# Altium integrated library Resistors_CPF-0805.IntLib: 984 symbols (part 5 of 6)
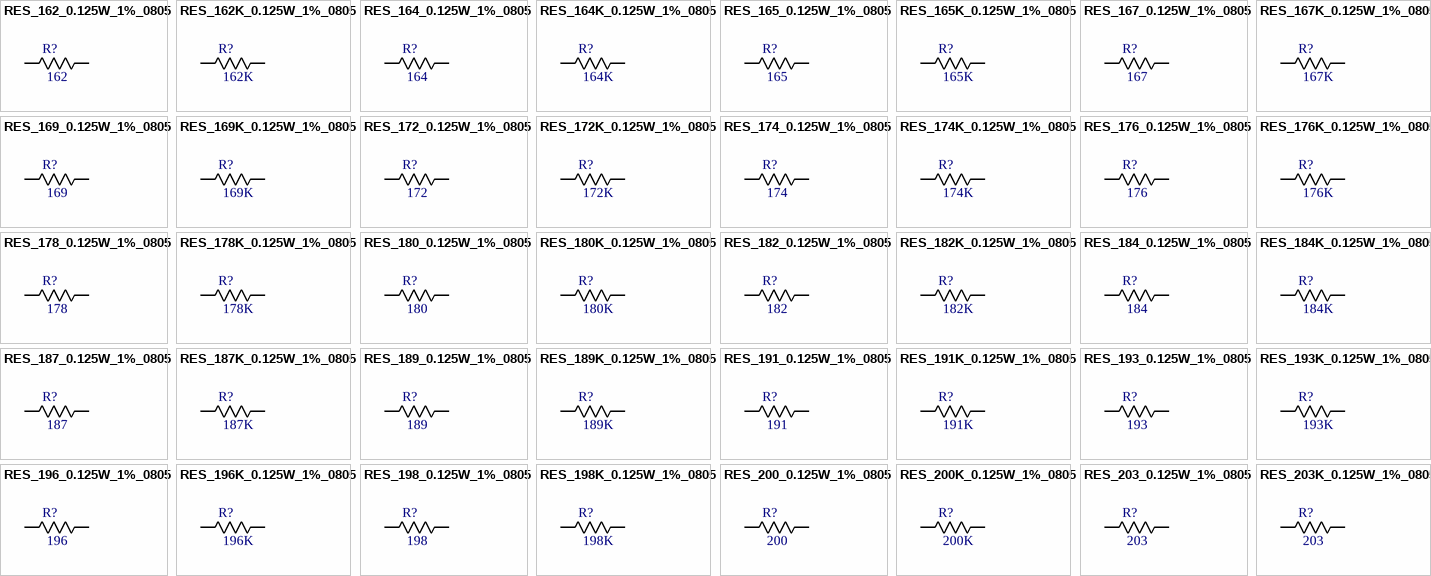
[diagram p28: symbols RES_162_0.125W_1%_0805 to RES_203K_0.125W_1%_0805]

## RES_174_0.125W_1%_0805
designator R?, comment 174
Resistenza SMD TE Connectivity Film sottile; Voltage[V]: 100; Tollerance[%]: 0.1; Serie: CPF; Vendor: TE Connectivity; Type: Resistors; Package: 0805; Power[W]: 0.1; Value[OHM ]: 174
footprint RES_0816_SUS(My_MAXI)
pins: 1, 2

## RES_174K_0.125W_1%_0805
designator R?, comment 174K
Resistenza SMD TE Connectivity Film sottile; Voltage[V]: 100; Tollerance[%]: 0.1; Serie: CPF; Vendor: TE Connectivity; Type: Resistors; Package: 0805; Power[W]: 0.1; Value[OHM ]: 174K
footprint RES_0816_SUS(My_MAXI)
pins: 1, 2

## RES_176_0.125W_1%_0805
designator R?, comment 176
Resistenza SMD TE Connectivity Film sottile; Voltage[V]: 100; Tollerance[%]: 0.1; Serie: CPF; Vendor: TE Connectivity; Type: Resistors; Package: 0805; Power[W]: 0.1; Value[OHM ]: 176
footprint RES_0816_SUS(My_MAXI)
pins: 1, 2

## RES_176K_0.125W_1%_0805
designator R?, comment 176K
Resistenza SMD TE Connectivity Film sottile; Voltage[V]: 100; Tollerance[%]: 0.1; Serie: CPF; Vendor: TE Connectivity; Type: Resistors; Package: 0805; Power[W]: 0.1; Value[OHM ]: 176K
footprint RES_0816_SUS(My_MAXI)
pins: 1, 2

## RES_178_0.125W_1%_0805
designator R?, comment 178
Resistenza SMD TE Connectivity Film sottile; Voltage[V]: 100; Tollerance[%]: 0.1; Serie: CPF; Vendor: TE Connectivity; Type: Resistors; Package: 0805; Power[W]: 0.1; Value[OHM ]: 178
footprint RES_0816_SUS(My_MAXI)
pins: 1, 2

## RES_178K_0.125W_1%_0805
designator R?, comment 178K
Resistenza SMD TE Connectivity Film sottile; Voltage[V]: 100; Tollerance[%]: 0.1; Serie: CPF; Vendor: TE Connectivity; Type: Resistors; Package: 0805; Power[W]: 0.1; Value[OHM ]: 178K
footprint RES_0816_SUS(My_MAXI)
pins: 1, 2

## RES_180_0.125W_1%_0805
designator R?, comment 180
Resistenza SMD TE Connectivity Film sottile; Voltage[V]: 100; Tollerance[%]: 0.1; Serie: CPF; Vendor: TE Connectivity; Type: Resistors; Package: 0805; Power[W]: 0.1; Value[OHM ]: 180
footprint RES_0816_SUS(My_MAXI)
pins: 1, 2

## RES_180K_0.125W_1%_0805
designator R?, comment 180K
Resistenza SMD TE Connectivity Film sottile; Voltage[V]: 100; Tollerance[%]: 0.1; Serie: CPF; Vendor: TE Connectivity; Type: Resistors; Package: 0805; Power[W]: 0.1; Value[OHM ]: 180K
footprint RES_0816_SUS(My_MAXI)
pins: 1, 2

## RES_182_0.125W_1%_0805
designator R?, comment 182
Resistenza SMD TE Connectivity Film sottile; Voltage[V]: 100; Tollerance[%]: 0.1; Serie: CPF; Vendor: TE Connectivity; Type: Resistors; Package: 0805; Power[W]: 0.1; Value[OHM ]: 182
footprint RES_0816_SUS(My_MAXI)
pins: 1, 2

## RES_182K_0.125W_1%_0805
designator R?, comment 182K
Resistenza SMD TE Connectivity Film sottile; Manufacturer_Part_Number: CPF0805B100RE; Voltage[V]: 100; Tollerance[%]: 0.1; Serie: CPF; Codice RS: 666-2516; Vendor: TE Connectivity; Type: Resistors; Package: 0805; Power[W]: 0.1; Value[OHM ]: 182K
footprint RES_0816_SUS(My_MAXI)
pins: 1, 2

## RES_184_0.125W_1%_0805
designator R?, comment 184
Resistenza SMD TE Connectivity Film sottile; Voltage[V]: 100; Tollerance[%]: 0.1; Serie: CPF; Vendor: TE Connectivity; Type: Resistors; Package: 0805; Power[W]: 0.1; Value[OHM ]: 184
footprint RES_0816_SUS(My_MAXI)
pins: 1, 2

## RES_184K_0.125W_1%_0805
designator R?, comment 184K
Resistenza SMD TE Connectivity Film sottile; Voltage[V]: 100; Tollerance[%]: 0.1; Serie: CPF; Vendor: TE Connectivity; Type: Resistors; Package: 0805; Power[W]: 0.1; Value[OHM ]: 184K
footprint RES_0816_SUS(My_MAXI)
pins: 1, 2

## RES_187_0.125W_1%_0805
designator R?, comment 187
Resistenza SMD TE Connectivity Film sottile; Voltage[V]: 100; Tollerance[%]: 0.1; Serie: CPF; Vendor: TE Connectivity; Type: Resistors; Package: 0805; Power[W]: 0.1; Value[OHM ]: 187
footprint RES_0816_SUS(My_MAXI)
pins: 1, 2

## RES_187K_0.125W_1%_0805
designator R?, comment 187K
Resistenza SMD TE Connectivity Film sottile; Voltage[V]: 100; Tollerance[%]: 0.1; Serie: CPF; Vendor: TE Connectivity; Type: Resistors; Package: 0805; Power[W]: 0.1; Value[OHM ]: 187K
footprint RES_0816_SUS(My_MAXI)
pins: 1, 2

## RES_189_0.125W_1%_0805
designator R?, comment 189
Resistenza SMD TE Connectivity Film sottile; Voltage[V]: 100; Tollerance[%]: 0.1; Serie: CPF; Vendor: TE Connectivity; Type: Resistors; Package: 0805; Power[W]: 0.1; Value[OHM ]: 189
footprint RES_0816_SUS(My_MAXI)
pins: 1, 2

## RES_189K_0.125W_1%_0805
designator R?, comment 189K
Resistenza SMD TE Connectivity Film sottile; Voltage[V]: 100; Tollerance[%]: 0.1; Serie: CPF; Vendor: TE Connectivity; Type: Resistors; Package: 0805; Power[W]: 0.1; Value[OHM ]: 189K
footprint RES_0816_SUS(My_MAXI)
pins: 1, 2

## RES_191_0.125W_1%_0805
designator R?, comment 191
Resistenza SMD TE Connectivity Film sottile; Voltage[V]: 100; Tollerance[%]: 0.1; Serie: CPF; Vendor: TE Connectivity; Type: Resistors; Package: 0805; Power[W]: 0.1; Value[OHM ]: 191
footprint RES_0816_SUS(My_MAXI)
pins: 1, 2

## RES_191K_0.125W_1%_0805
designator R?, comment 191K
Resistenza SMD TE Connectivity Film sottile; Voltage[V]: 100; Tollerance[%]: 0.1; Serie: CPF; Vendor: TE Connectivity; Type: Resistors; Package: 0805; Power[W]: 0.1; Value[OHM ]: 191K
footprint RES_0816_SUS(My_MAXI)
pins: 1, 2

## RES_193_0.125W_1%_0805
designator R?, comment 193
Resistenza SMD TE Connectivity Film sottile; Voltage[V]: 100; Tollerance[%]: 0.1; Serie: CPF; Vendor: TE Connectivity; Type: Resistors; Package: 0805; Power[W]: 0.1; Value[OHM ]: 193
footprint RES_0816_SUS(My_MAXI)
pins: 1, 2

## RES_193K_0.125W_1%_0805
designator R?, comment 193K
Resistenza SMD TE Connectivity Film sottile; Voltage[V]: 100; Tollerance[%]: 0.1; Serie: CPF; Vendor: TE Connectivity; Type: Resistors; Package: 0805; Power[W]: 0.1; Value[OHM ]: 193K
footprint RES_0816_SUS(My_MAXI)
pins: 1, 2

## RES_196_0.125W_1%_0805
designator R?, comment 196
Resistenza SMD TE Connectivity Film sottile; Voltage[V]: 100; Tollerance[%]: 0.1; Serie: CPF; Vendor: TE Connectivity; Type: Resistors; Package: 0805; Power[W]: 0.1; Value[OHM ]: 196
footprint RES_0816_SUS(My_MAXI)
pins: 1, 2

## RES_196K_0.125W_1%_0805
designator R?, comment 196K
Resistenza SMD TE Connectivity Film sottile; Voltage[V]: 100; Tollerance[%]: 0.1; Serie: CPF; Vendor: TE Connectivity; Type: Resistors; Package: 0805; Power[W]: 0.1; Value[OHM ]: 196K
footprint RES_0816_SUS(My_MAXI)
pins: 1, 2

## RES_198_0.125W_1%_0805
designator R?, comment 198
Resistenza SMD TE Connectivity Film sottile; Voltage[V]: 100; Tollerance[%]: 0.1; Serie: CPF; Vendor: TE Connectivity; Type: Resistors; Package: 0805; Power[W]: 0.1; Value[OHM ]: 198
footprint RES_0816_SUS(My_MAXI)
pins: 1, 2

## RES_198K_0.125W_1%_0805
designator R?, comment 198K
Resistenza SMD TE Connectivity Film sottile; Voltage[V]: 100; Tollerance[%]: 0.1; Serie: CPF; Vendor: TE Connectivity; Type: Resistors; Package: 0805; Power[W]: 0.1; Value[OHM ]: 198K
footprint RES_0816_SUS(My_MAXI)
pins: 1, 2

## RES_200_0.125W_1%_0805
designator R?, comment 200
Resistenza SMD TE Connectivity Film sottile; Voltage[V]: 100; Tollerance[%]: 0.1; Serie: CPF; Vendor: TE Connectivity; Type: Resistors; Package: 0805; Power[W]: 0.1; Value[OHM ]: 200
footprint RES_0816_SUS(My_MAXI)
pins: 1, 2

## RES_200K_0.125W_1%_0805
designator R?, comment 200K
Resistenza SMD TE Connectivity Film sottile; Voltage[V]: 100; Tollerance[%]: 0.1; Serie: CPF; Vendor: TE Connectivity; Type: Resistors; Package: 0805; Power[W]: 0.1; Value[OHM ]: 200K
footprint RES_0816_SUS(My_MAXI)
pins: 1, 2

## RES_203_0.125W_1%_0805
designator R?, comment 203
Resistenza SMD TE Connectivity Film sottile; Voltage[V]: 100; Tollerance[%]: 0.1; Serie: CPF; Vendor: TE Connectivity; Type: Resistors; Package: 0805; Power[W]: 0.1; Value[OHM ]: 203
footprint RES_0816_SUS(My_MAXI)
pins: 1, 2

## RES_203K_0.125W_1%_0805
designator R?, comment 203
Resistenza SMD TE Connectivity Film sottile; Voltage[V]: 100; Tollerance[%]: 0.1; Serie: CPF; Vendor: TE Connectivity; Type: Resistors; Package: 0805; Power[W]: 0.1; Value[OHM ]: 203
footprint RES_0816_SUS(My_MAXI)
pins: 1, 2

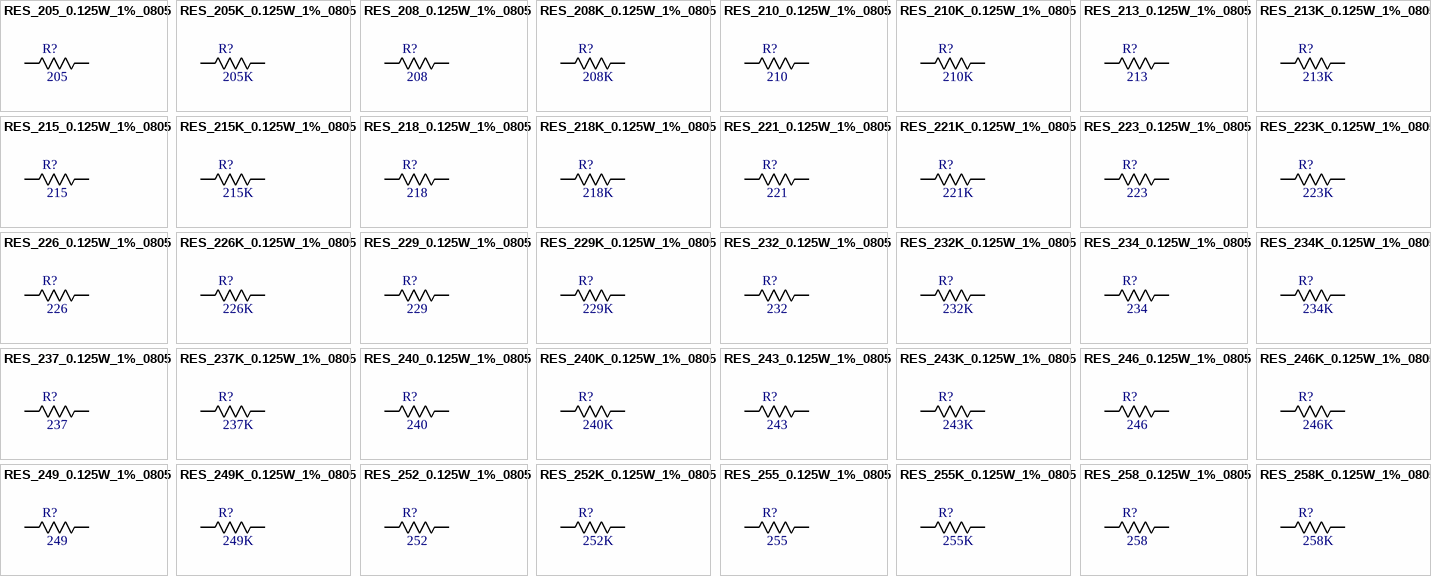
[diagram p18: symbols RES_205_0.125W_1%_0805 to RES_258K_0.125W_1%_0805]

## RES_205_0.125W_1%_0805
designator R?, comment 205
Resistenza SMD TE Connectivity Film sottile; Voltage[V]: 100; Tollerance[%]: 0.1; Serie: CPF; Vendor: TE Connectivity; Type: Resistors; Package: 0805; Power[W]: 0.1; Value[OHM ]: 205
footprint RES_0816_SUS(My_MAXI)
pins: 1, 2

## RES_205K_0.125W_1%_0805
designator R?, comment 205K
Resistenza SMD TE Connectivity Film sottile; Voltage[V]: 100; Tollerance[%]: 0.1; Serie: CPF; Vendor: TE Connectivity; Type: Resistors; Package: 0805; Power[W]: 0.1; Value[OHM ]: 205K
footprint RES_0816_SUS(My_MAXI)
pins: 1, 2

## RES_208_0.125W_1%_0805
designator R?, comment 208
Resistenza SMD TE Connectivity Film sottile; Voltage[V]: 100; Tollerance[%]: 0.1; Serie: CPF; Vendor: TE Connectivity; Type: Resistors; Package: 0805; Power[W]: 0.1; Value[OHM ]: 208
footprint RES_0816_SUS(My_MAXI)
pins: 1, 2

## RES_208K_0.125W_1%_0805
designator R?, comment 208K
Resistenza SMD TE Connectivity Film sottile; Voltage[V]: 100; Tollerance[%]: 0.1; Serie: CPF; Vendor: TE Connectivity; Type: Resistors; Package: 0805; Power[W]: 0.1; Value[OHM ]: 208K
footprint RES_0816_SUS(My_MAXI)
pins: 1, 2

## RES_210_0.125W_1%_0805
designator R?, comment 210
Resistenza SMD TE Connectivity Film sottile; Voltage[V]: 100; Tollerance[%]: 0.1; Serie: CPF; Vendor: TE Connectivity; Type: Resistors; Package: 0805; Power[W]: 0.1; Value[OHM ]: 210
footprint RES_0816_SUS(My_MAXI)
pins: 1, 2

## RES_210K_0.125W_1%_0805
designator R?, comment 210K
Resistenza SMD TE Connectivity Film sottile; Voltage[V]: 100; Tollerance[%]: 0.1; Serie: CPF; Vendor: TE Connectivity; Type: Resistors; Package: 0805; Power[W]: 0.1; Value[OHM ]: 210K
footprint RES_0816_SUS(My_MAXI)
pins: 1, 2

## RES_213_0.125W_1%_0805
designator R?, comment 213
Resistenza SMD TE Connectivity Film sottile; Voltage[V]: 100; Tollerance[%]: 0.1; Serie: CPF; Vendor: TE Connectivity; Type: Resistors; Package: 0805; Power[W]: 0.1; Value[OHM ]: 213
footprint RES_0816_SUS(My_MAXI)
pins: 1, 2

## RES_213K_0.125W_1%_0805
designator R?, comment 213K
Resistenza SMD TE Connectivity Film sottile; Voltage[V]: 100; Tollerance[%]: 0.1; Serie: CPF; Vendor: TE Connectivity; Type: Resistors; Package: 0805; Power[W]: 0.1; Value[OHM ]: 213K
footprint RES_0816_SUS(My_MAXI)
pins: 1, 2

## RES_215_0.125W_1%_0805
designator R?, comment 215
Resistenza SMD TE Connectivity Film sottile; Voltage[V]: 100; Tollerance[%]: 0.1; Serie: CPF; Vendor: TE Connectivity; Type: Resistors; Package: 0805; Power[W]: 0.1; Value[OHM ]: 215
footprint RES_0816_SUS(My_MAXI)
pins: 1, 2

## RES_215K_0.125W_1%_0805
designator R?, comment 215K
Resistenza SMD TE Connectivity Film sottile; Voltage[V]: 100; Tollerance[%]: 0.1; Serie: CPF; Vendor: TE Connectivity; Type: Resistors; Package: 0805; Power[W]: 0.1; Value[OHM ]: 215K
footprint RES_0816_SUS(My_MAXI)
pins: 1, 2

## RES_218_0.125W_1%_0805
designator R?, comment 218
Resistenza SMD TE Connectivity Film sottile; Voltage[V]: 100; Tollerance[%]: 0.1; Serie: CPF; Vendor: TE Connectivity; Type: Resistors; Package: 0805; Power[W]: 0.1; Value[OHM ]: 218
footprint RES_0816_SUS(My_MAXI)
pins: 1, 2

## RES_218K_0.125W_1%_0805
designator R?, comment 218K
Resistenza SMD TE Connectivity Film sottile; Voltage[V]: 100; Tollerance[%]: 0.1; Serie: CPF; Vendor: TE Connectivity; Type: Resistors; Package: 0805; Power[W]: 0.1; Value[OHM ]: 218K
footprint RES_0816_SUS(My_MAXI)
pins: 1, 2

## RES_221_0.125W_1%_0805
designator R?, comment 221
Resistenza SMD TE Connectivity Film sottile; Voltage[V]: 100; Tollerance[%]: 0.1; Serie: CPF; Vendor: TE Connectivity; Type: Resistors; Package: 0805; Power[W]: 0.1; Value[OHM ]: 221
footprint RES_0816_SUS(My_MAXI)
pins: 1, 2

## RES_221K_0.125W_1%_0805
designator R?, comment 221K
Resistenza SMD TE Connectivity Film sottile; Voltage[V]: 100; Tollerance[%]: 0.1; Serie: CPF; Vendor: TE Connectivity; Type: Resistors; Package: 0805; Power[W]: 0.1; Value[OHM ]: 221K
footprint RES_0816_SUS(My_MAXI)
pins: 1, 2

## RES_223_0.125W_1%_0805
designator R?, comment 223
Resistenza SMD TE Connectivity Film sottile; Voltage[V]: 100; Tollerance[%]: 0.1; Serie: CPF; Vendor: TE Connectivity; Type: Resistors; Package: 0805; Power[W]: 0.1; Value[OHM ]: 223
footprint RES_0816_SUS(My_MAXI)
pins: 1, 2

## RES_223K_0.125W_1%_0805
designator R?, comment 223K
Resistenza SMD TE Connectivity Film sottile; Voltage[V]: 100; Tollerance[%]: 0.1; Serie: CPF; Vendor: TE Connectivity; Type: Resistors; Package: 0805; Power[W]: 0.1; Value[OHM ]: 223K
footprint RES_0816_SUS(My_MAXI)
pins: 1, 2

## RES_226_0.125W_1%_0805
designator R?, comment 226
Resistenza SMD TE Connectivity Film sottile; Voltage[V]: 100; Tollerance[%]: 0.1; Serie: CPF; Vendor: TE Connectivity; Type: Resistors; Package: 0805; Power[W]: 0.1; Value[OHM ]: 226
footprint RES_0816_SUS(My_MAXI)
pins: 1, 2

## RES_226K_0.125W_1%_0805
designator R?, comment 226K
Resistenza SMD TE Connectivity Film sottile; Voltage[V]: 100; Tollerance[%]: 0.1; Serie: CPF; Vendor: TE Connectivity; Type: Resistors; Package: 0805; Power[W]: 0.1; Value[OHM ]: 226K
footprint RES_0816_SUS(My_MAXI)
pins: 1, 2

## RES_229_0.125W_1%_0805
designator R?, comment 229
Resistenza SMD TE Connectivity Film sottile; Voltage[V]: 100; Tollerance[%]: 0.1; Serie: CPF; Vendor: TE Connectivity; Type: Resistors; Package: 0805; Power[W]: 0.1; Value[OHM ]: 229
footprint RES_0816_SUS(My_MAXI)
pins: 1, 2

## RES_229K_0.125W_1%_0805
designator R?, comment 229K
Resistenza SMD TE Connectivity Film sottile; Voltage[V]: 100; Tollerance[%]: 0.1; Serie: CPF; Vendor: TE Connectivity; Type: Resistors; Package: 0805; Power[W]: 0.1; Value[OHM ]: 229K
footprint RES_0816_SUS(My_MAXI)
pins: 1, 2

## RES_232_0.125W_1%_0805
designator R?, comment 232
Resistenza SMD TE Connectivity Film sottile; Voltage[V]: 100; Tollerance[%]: 0.1; Serie: CPF; Vendor: TE Connectivity; Type: Resistors; Package: 0805; Power[W]: 0.1; Value[OHM ]: 232
footprint RES_0816_SUS(My_MAXI)
pins: 1, 2

## RES_232K_0.125W_1%_0805
designator R?, comment 232K
Resistenza SMD TE Connectivity Film sottile; Voltage[V]: 100; Tollerance[%]: 0.1; Serie: CPF; Vendor: TE Connectivity; Type: Resistors; Package: 0805; Power[W]: 0.1; Value[OHM ]: 232K
footprint RES_0816_SUS(My_MAXI)
pins: 1, 2

## RES_234_0.125W_1%_0805
designator R?, comment 234
Resistenza SMD TE Connectivity Film sottile; Voltage[V]: 100; Tollerance[%]: 0.1; Serie: CPF; Vendor: TE Connectivity; Type: Resistors; Package: 0805; Power[W]: 0.1; Value[OHM ]: 234
footprint RES_0816_SUS(My_MAXI)
pins: 1, 2

## RES_234K_0.125W_1%_0805
designator R?, comment 234K
Resistenza SMD TE Connectivity Film sottile; Voltage[V]: 100; Tollerance[%]: 0.1; Serie: CPF; Vendor: TE Connectivity; Type: Resistors; Package: 0805; Power[W]: 0.1; Value[OHM ]: 234K
footprint RES_0816_SUS(My_MAXI)
pins: 1, 2

## RES_237_0.125W_1%_0805
designator R?, comment 237
Resistenza SMD TE Connectivity Film sottile; Voltage[V]: 100; Tollerance[%]: 0.1; Serie: CPF; Vendor: TE Connectivity; Type: Resistors; Package: 0805; Power[W]: 0.1; Value[OHM ]: 237
footprint RES_0816_SUS(My_MAXI)
pins: 1, 2

## RES_237K_0.125W_1%_0805
designator R?, comment 237K
Resistenza SMD TE Connectivity Film sottile; Voltage[V]: 100; Tollerance[%]: 0.1; Serie: CPF; Vendor: TE Connectivity; Type: Resistors; Package: 0805; Power[W]: 0.1; Value[OHM ]: 237K
footprint RES_0816_SUS(My_MAXI)
pins: 1, 2

## RES_240_0.125W_1%_0805
designator R?, comment 240
Resistenza SMD TE Connectivity Film sottile; Voltage[V]: 100; Tollerance[%]: 0.1; Serie: CPF; Vendor: TE Connectivity; Type: Resistors; Package: 0805; Power[W]: 0.1; Value[OHM ]: 240
footprint RES_0816_SUS(My_MAXI)
pins: 1, 2

## RES_240K_0.125W_1%_0805
designator R?, comment 240K
Resistenza SMD TE Connectivity Film sottile; Voltage[V]: 100; Tollerance[%]: 0.1; Serie: CPF; Vendor: TE Connectivity; Type: Resistors; Package: 0805; Power[W]: 0.1; Value[OHM ]: 240K
footprint RES_0816_SUS(My_MAXI)
pins: 1, 2

## RES_243_0.125W_1%_0805
designator R?, comment 243
Resistenza SMD TE Connectivity Film sottile; Voltage[V]: 100; Tollerance[%]: 0.1; Serie: CPF; Vendor: TE Connectivity; Type: Resistors; Package: 0805; Power[W]: 0.1; Value[OHM ]: 243
footprint RES_0816_SUS(My_MAXI)
pins: 1, 2

## RES_243K_0.125W_1%_0805
designator R?, comment 243K
Resistenza SMD TE Connectivity Film sottile; Voltage[V]: 100; Tollerance[%]: 0.1; Serie: CPF; Vendor: TE Connectivity; Type: Resistors; Package: 0805; Power[W]: 0.1; Value[OHM ]: 243K
footprint RES_0816_SUS(My_MAXI)
pins: 1, 2

## RES_246_0.125W_1%_0805
designator R?, comment 246
Resistenza SMD TE Connectivity Film sottile; Voltage[V]: 100; Tollerance[%]: 0.1; Serie: CPF; Vendor: TE Connectivity; Type: Resistors; Package: 0805; Power[W]: 0.1; Value[OHM ]: 246
footprint RES_0816_SUS(My_MAXI)
pins: 1, 2

## RES_246K_0.125W_1%_0805
designator R?, comment 246K
Resistenza SMD TE Connectivity Film sottile; Voltage[V]: 100; Tollerance[%]: 0.1; Serie: CPF; Vendor: TE Connectivity; Type: Resistors; Package: 0805; Power[W]: 0.1; Value[OHM ]: 246K
footprint RES_0816_SUS(My_MAXI)
pins: 1, 2

## RES_249_0.125W_1%_0805
designator R?, comment 249
Resistenza SMD TE Connectivity Film sottile; Voltage[V]: 100; Tollerance[%]: 0.1; Serie: CPF; Vendor: TE Connectivity; Type: Resistors; Package: 0805; Power[W]: 0.1; Value[OHM ]: 249
footprint RES_0816_SUS(My_MAXI)
pins: 1, 2

## RES_249K_0.125W_1%_0805
designator R?, comment 249K
Resistenza SMD TE Connectivity Film sottile; Voltage[V]: 100; Tollerance[%]: 0.1; Serie: CPF; Vendor: TE Connectivity; Type: Resistors; Package: 0805; Power[W]: 0.1; Value[OHM ]: 249K
footprint RES_0816_SUS(My_MAXI)
pins: 1, 2

## RES_252_0.125W_1%_0805
designator R?, comment 252
Resistenza SMD TE Connectivity Film sottile; Voltage[V]: 100; Tollerance[%]: 0.1; Serie: CPF; Vendor: TE Connectivity; Type: Resistors; Package: 0805; Power[W]: 0.1; Value[OHM ]: 252
footprint RES_0816_SUS(My_MAXI)
pins: 1, 2

## RES_252K_0.125W_1%_0805
designator R?, comment 252K
Resistenza SMD TE Connectivity Film sottile; Voltage[V]: 100; Tollerance[%]: 0.1; Serie: CPF; Vendor: TE Connectivity; Type: Resistors; Package: 0805; Power[W]: 0.1; Value[OHM ]: 252K
footprint RES_0816_SUS(My_MAXI)
pins: 1, 2

## RES_255_0.125W_1%_0805
designator R?, comment 255
Resistenza SMD TE Connectivity Film sottile; Voltage[V]: 100; Tollerance[%]: 0.1; Serie: CPF; Vendor: TE Connectivity; Type: Resistors; Package: 0805; Power[W]: 0.1; Value[OHM ]: 255
footprint RES_0816_SUS(My_MAXI)
pins: 1, 2

## RES_255K_0.125W_1%_0805
designator R?, comment 255K
Resistenza SMD TE Connectivity Film sottile; Voltage[V]: 100; Tollerance[%]: 0.1; Serie: CPF; Vendor: TE Connectivity; Type: Resistors; Package: 0805; Power[W]: 0.1; Value[OHM ]: 255K
footprint RES_0816_SUS(My_MAXI)
pins: 1, 2

## RES_258_0.125W_1%_0805
designator R?, comment 258
Resistenza SMD TE Connectivity Film sottile; Voltage[V]: 100; Tollerance[%]: 0.1; Serie: CPF; Vendor: TE Connectivity; Type: Resistors; Package: 0805; Power[W]: 0.1; Value[OHM ]: 258
footprint RES_0816_SUS(My_MAXI)
pins: 1, 2

## RES_258K_0.125W_1%_0805
designator R?, comment 258K
Resistenza SMD TE Connectivity Film sottile; Voltage[V]: 100; Tollerance[%]: 0.1; Serie: CPF; Vendor: TE Connectivity; Type: Resistors; Package: 0805; Power[W]: 0.1; Value[OHM ]: 258K
footprint RES_0816_SUS(My_MAXI)
pins: 1, 2

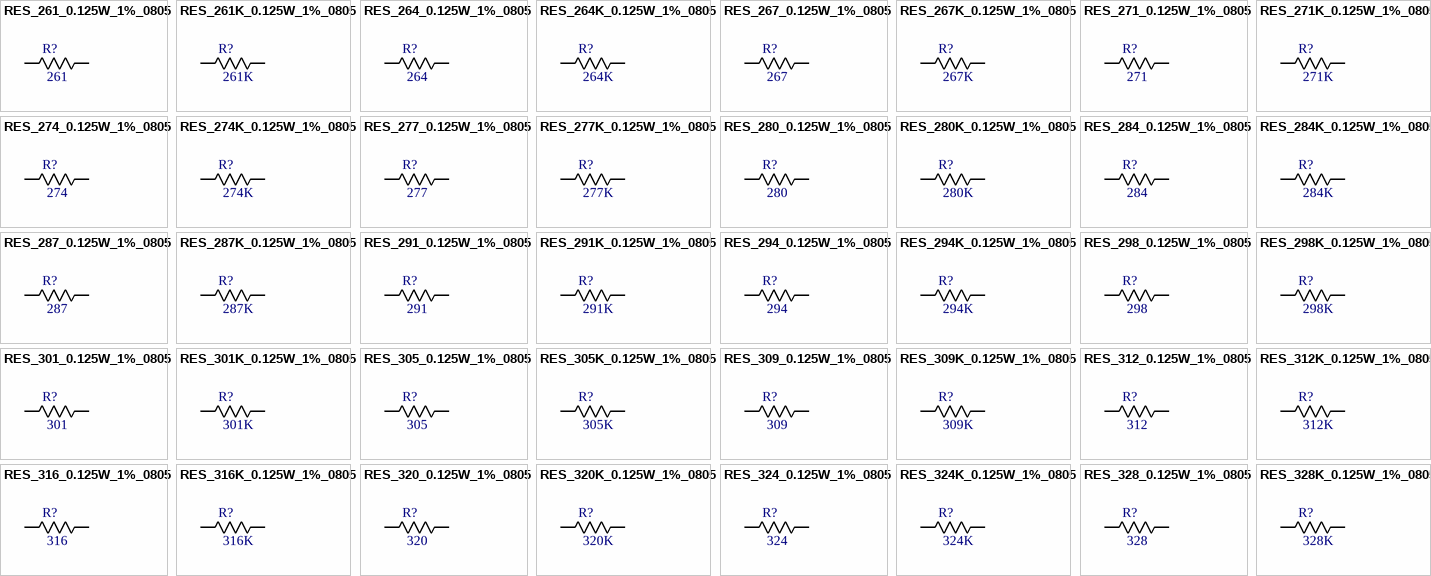
[diagram p19: symbols RES_261_0.125W_1%_0805 to RES_328K_0.125W_1%_0805]

## RES_261_0.125W_1%_0805
designator R?, comment 261
Resistenza SMD TE Connectivity Film sottile; Voltage[V]: 100; Tollerance[%]: 0.1; Serie: CPF; Vendor: TE Connectivity; Type: Resistors; Package: 0805; Power[W]: 0.1; Value[OHM ]: 261
footprint RES_0816_SUS(My_MAXI)
pins: 1, 2

## RES_261K_0.125W_1%_0805
designator R?, comment 261K
Resistenza SMD TE Connectivity Film sottile; Voltage[V]: 100; Tollerance[%]: 0.1; Serie: CPF; Vendor: TE Connectivity; Type: Resistors; Package: 0805; Power[W]: 0.1; Value[OHM ]: 261K
footprint RES_0816_SUS(My_MAXI)
pins: 1, 2

## RES_264_0.125W_1%_0805
designator R?, comment 264
Resistenza SMD TE Connectivity Film sottile; Voltage[V]: 100; Tollerance[%]: 0.1; Serie: CPF; Vendor: TE Connectivity; Type: Resistors; Package: 0805; Power[W]: 0.1; Value[OHM ]: 264
footprint RES_0816_SUS(My_MAXI)
pins: 1, 2

## RES_264K_0.125W_1%_0805
designator R?, comment 264K
Resistenza SMD TE Connectivity Film sottile; Voltage[V]: 100; Tollerance[%]: 0.1; Serie: CPF; Vendor: TE Connectivity; Type: Resistors; Package: 0805; Power[W]: 0.1; Value[OHM ]: 264K
footprint RES_0816_SUS(My_MAXI)
pins: 1, 2

## RES_267_0.125W_1%_0805
designator R?, comment 267
Resistenza SMD TE Connectivity Film sottile; Voltage[V]: 100; Tollerance[%]: 0.1; Serie: CPF; Vendor: TE Connectivity; Type: Resistors; Package: 0805; Power[W]: 0.1; Value[OHM ]: 267
footprint RES_0816_SUS(My_MAXI)
pins: 1, 2

## RES_267K_0.125W_1%_0805
designator R?, comment 267K
Resistenza SMD TE Connectivity Film sottile; Voltage[V]: 100; Tollerance[%]: 0.1; Serie: CPF; Vendor: TE Connectivity; Type: Resistors; Package: 0805; Power[W]: 0.1; Value[OHM ]: 267K
footprint RES_0816_SUS(My_MAXI)
pins: 1, 2

## RES_271_0.125W_1%_0805
designator R?, comment 271
Resistenza SMD TE Connectivity Film sottile; Voltage[V]: 100; Tollerance[%]: 0.1; Serie: CPF; Vendor: TE Connectivity; Type: Resistors; Package: 0805; Power[W]: 0.1; Value[OHM ]: 271
footprint RES_0816_SUS(My_MAXI)
pins: 1, 2

## RES_271K_0.125W_1%_0805
designator R?, comment 271K
Resistenza SMD TE Connectivity Film sottile; Voltage[V]: 100; Tollerance[%]: 0.1; Serie: CPF; Vendor: TE Connectivity; Type: Resistors; Package: 0805; Power[W]: 0.1; Value[OHM ]: 271K
footprint RES_0816_SUS(My_MAXI)
pins: 1, 2

## RES_274_0.125W_1%_0805
designator R?, comment 274
Resistenza SMD TE Connectivity Film sottile; Voltage[V]: 100; Tollerance[%]: 0.1; Serie: CPF; Vendor: TE Connectivity; Type: Resistors; Package: 0805; Power[W]: 0.1; Value[OHM ]: 274
footprint RES_0816_SUS(My_MAXI)
pins: 1, 2

## RES_274K_0.125W_1%_0805
designator R?, comment 274K
Resistenza SMD TE Connectivity Film sottile; Voltage[V]: 100; Tollerance[%]: 0.1; Serie: CPF; Vendor: TE Connectivity; Type: Resistors; Package: 0805; Power[W]: 0.1; Value[OHM ]: 274K
footprint RES_0816_SUS(My_MAXI)
pins: 1, 2

## RES_277_0.125W_1%_0805
designator R?, comment 277
Resistenza SMD TE Connectivity Film sottile; Voltage[V]: 100; Tollerance[%]: 0.1; Serie: CPF; Vendor: TE Connectivity; Type: Resistors; Package: 0805; Power[W]: 0.1; Value[OHM ]: 277
footprint RES_0816_SUS(My_MAXI)
pins: 1, 2

## RES_277K_0.125W_1%_0805
designator R?, comment 277K
Resistenza SMD TE Connectivity Film sottile; Voltage[V]: 100; Tollerance[%]: 0.1; Serie: CPF; Vendor: TE Connectivity; Type: Resistors; Package: 0805; Power[W]: 0.1; Value[OHM ]: 277K
footprint RES_0816_SUS(My_MAXI)
pins: 1, 2

## RES_280_0.125W_1%_0805
designator R?, comment 280
Resistenza SMD TE Connectivity Film sottile; Voltage[V]: 100; Tollerance[%]: 0.1; Serie: CPF; Vendor: TE Connectivity; Type: Resistors; Package: 0805; Power[W]: 0.1; Value[OHM ]: 280
footprint RES_0816_SUS(My_MAXI)
pins: 1, 2

## RES_280K_0.125W_1%_0805
designator R?, comment 280K
Resistenza SMD TE Connectivity Film sottile; Voltage[V]: 100; Tollerance[%]: 0.1; Serie: CPF; Vendor: TE Connectivity; Type: Resistors; Package: 0805; Power[W]: 0.1; Value[OHM ]: 280K
footprint RES_0816_SUS(My_MAXI)
pins: 1, 2

## RES_284_0.125W_1%_0805
designator R?, comment 284
Resistenza SMD TE Connectivity Film sottile; Voltage[V]: 100; Tollerance[%]: 0.1; Serie: CPF; Vendor: TE Connectivity; Type: Resistors; Package: 0805; Power[W]: 0.1; Value[OHM ]: 284
footprint RES_0816_SUS(My_MAXI)
pins: 1, 2

## RES_284K_0.125W_1%_0805
designator R?, comment 284K
Resistenza SMD TE Connectivity Film sottile; Voltage[V]: 100; Tollerance[%]: 0.1; Serie: CPF; Vendor: TE Connectivity; Type: Resistors; Package: 0805; Power[W]: 0.1; Value[OHM ]: 284K
footprint RES_0816_SUS(My_MAXI)
pins: 1, 2

## RES_287_0.125W_1%_0805
designator R?, comment 287
Resistenza SMD TE Connectivity Film sottile; Voltage[V]: 100; Tollerance[%]: 0.1; Serie: CPF; Vendor: TE Connectivity; Type: Resistors; Package: 0805; Power[W]: 0.1; Value[OHM ]: 287
footprint RES_0816_SUS(My_MAXI)
pins: 1, 2

## RES_287K_0.125W_1%_0805
designator R?, comment 287K
Resistenza SMD TE Connectivity Film sottile; Voltage[V]: 100; Tollerance[%]: 0.1; Serie: CPF; Vendor: TE Connectivity; Type: Resistors; Package: 0805; Power[W]: 0.1; Value[OHM ]: 287K
footprint RES_0816_SUS(My_MAXI)
pins: 1, 2

## RES_291_0.125W_1%_0805
designator R?, comment 291
Resistenza SMD TE Connectivity Film sottile; Voltage[V]: 100; Tollerance[%]: 0.1; Serie: CPF; Vendor: TE Connectivity; Type: Resistors; Package: 0805; Power[W]: 0.1; Value[OHM ]: 291
footprint RES_0816_SUS(My_MAXI)
pins: 1, 2

## RES_291K_0.125W_1%_0805
designator R?, comment 291K
Resistenza SMD TE Connectivity Film sottile; Voltage[V]: 100; Tollerance[%]: 0.1; Serie: CPF; Vendor: TE Connectivity; Type: Resistors; Package: 0805; Power[W]: 0.1; Value[OHM ]: 291K
footprint RES_0816_SUS(My_MAXI)
pins: 1, 2

## RES_294_0.125W_1%_0805
designator R?, comment 294
Resistenza SMD TE Connectivity Film sottile; Voltage[V]: 100; Tollerance[%]: 0.1; Serie: CPF; Vendor: TE Connectivity; Type: Resistors; Package: 0805; Power[W]: 0.1; Value[OHM ]: 294
footprint RES_0816_SUS(My_MAXI)
pins: 1, 2

## RES_294K_0.125W_1%_0805
designator R?, comment 294K
Resistenza SMD TE Connectivity Film sottile; Voltage[V]: 100; Tollerance[%]: 0.1; Serie: CPF; Vendor: TE Connectivity; Type: Resistors; Package: 0805; Power[W]: 0.1; Value[OHM ]: 294K
footprint RES_0816_SUS(My_MAXI)
pins: 1, 2

## RES_298_0.125W_1%_0805
designator R?, comment 298
Resistenza SMD TE Connectivity Film sottile; Voltage[V]: 100; Tollerance[%]: 0.1; Serie: CPF; Vendor: TE Connectivity; Type: Resistors; Package: 0805; Power[W]: 0.1; Value[OHM ]: 298
footprint RES_0816_SUS(My_MAXI)
pins: 1, 2

## RES_298K_0.125W_1%_0805
designator R?, comment 298K
Resistenza SMD TE Connectivity Film sottile; Voltage[V]: 100; Tollerance[%]: 0.1; Serie: CPF; Vendor: TE Connectivity; Type: Resistors; Package: 0805; Power[W]: 0.1; Value[OHM ]: 298K
footprint RES_0816_SUS(My_MAXI)
pins: 1, 2

## RES_301_0.125W_1%_0805
designator R?, comment 301
Resistenza SMD TE Connectivity Film sottile; Voltage[V]: 100; Tollerance[%]: 0.1; Serie: CPF; Vendor: TE Connectivity; Type: Resistors; Package: 0805; Power[W]: 0.1; Value[OHM ]: 301
footprint RES_0816_SUS(My_MAXI)
pins: 1, 2

## RES_301K_0.125W_1%_0805
designator R?, comment 301K
Resistenza SMD TE Connectivity Film sottile; Voltage[V]: 100; Tollerance[%]: 0.1; Serie: CPF; Vendor: TE Connectivity; Type: Resistors; Package: 0805; Power[W]: 0.1; Value[OHM ]: 301K
footprint RES_0816_SUS(My_MAXI)
pins: 1, 2

## RES_305_0.125W_1%_0805
designator R?, comment 305
Resistenza SMD TE Connectivity Film sottile; Voltage[V]: 100; Tollerance[%]: 0.1; Serie: CPF; Vendor: TE Connectivity; Type: Resistors; Package: 0805; Power[W]: 0.1; Value[OHM ]: 305
footprint RES_0816_SUS(My_MAXI)
pins: 1, 2

## RES_305K_0.125W_1%_0805
designator R?, comment 305K
Resistenza SMD TE Connectivity Film sottile; Voltage[V]: 100; Tollerance[%]: 0.1; Serie: CPF; Vendor: TE Connectivity; Type: Resistors; Package: 0805; Power[W]: 0.1; Value[OHM ]: 305K
footprint RES_0816_SUS(My_MAXI)
pins: 1, 2

## RES_309_0.125W_1%_0805
designator R?, comment 309
Resistenza SMD TE Connectivity Film sottile; Voltage[V]: 100; Tollerance[%]: 0.1; Serie: CPF; Vendor: TE Connectivity; Type: Resistors; Package: 0805; Power[W]: 0.1; Value[OHM ]: 309
footprint RES_0816_SUS(My_MAXI)
pins: 1, 2

## RES_309K_0.125W_1%_0805
designator R?, comment 309K
Resistenza SMD TE Connectivity Film sottile; Voltage[V]: 100; Tollerance[%]: 0.1; Serie: CPF; Vendor: TE Connectivity; Type: Resistors; Package: 0805; Power[W]: 0.1; Value[OHM ]: 309K
footprint RES_0816_SUS(My_MAXI)
pins: 1, 2

## RES_312_0.125W_1%_0805
designator R?, comment 312
Resistenza SMD TE Connectivity Film sottile; Voltage[V]: 100; Tollerance[%]: 0.1; Serie: CPF; Vendor: TE Connectivity; Type: Resistors; Package: 0805; Power[W]: 0.1; Value[OHM ]: 312
footprint RES_0816_SUS(My_MAXI)
pins: 1, 2

## RES_312K_0.125W_1%_0805
designator R?, comment 312K
Resistenza SMD TE Connectivity Film sottile; Voltage[V]: 100; Tollerance[%]: 0.1; Serie: CPF; Vendor: TE Connectivity; Type: Resistors; Package: 0805; Power[W]: 0.1; Value[OHM ]: 312K
footprint RES_0816_SUS(My_MAXI)
pins: 1, 2

## RES_316_0.125W_1%_0805
designator R?, comment 316
Resistenza SMD TE Connectivity Film sottile; Voltage[V]: 100; Tollerance[%]: 0.1; Serie: CPF; Vendor: TE Connectivity; Type: Resistors; Package: 0805; Power[W]: 0.1; Value[OHM ]: 316
footprint RES_0816_SUS(My_MAXI)
pins: 1, 2

## RES_316K_0.125W_1%_0805
designator R?, comment 316K
Resistenza SMD TE Connectivity Film sottile; Voltage[V]: 100; Tollerance[%]: 0.1; Serie: CPF; Vendor: TE Connectivity; Type: Resistors; Package: 0805; Power[W]: 0.1; Value[OHM ]: 316K
footprint RES_0816_SUS(My_MAXI)
pins: 1, 2

## RES_320_0.125W_1%_0805
designator R?, comment 320
Resistenza SMD TE Connectivity Film sottile; Voltage[V]: 100; Tollerance[%]: 0.1; Serie: CPF; Vendor: TE Connectivity; Type: Resistors; Package: 0805; Power[W]: 0.1; Value[OHM ]: 320
footprint RES_0816_SUS(My_MAXI)
pins: 1, 2

## RES_320K_0.125W_1%_0805
designator R?, comment 320K
Resistenza SMD TE Connectivity Film sottile; Voltage[V]: 100; Tollerance[%]: 0.1; Serie: CPF; Vendor: TE Connectivity; Type: Resistors; Package: 0805; Power[W]: 0.1; Value[OHM ]: 320K
footprint RES_0816_SUS(My_MAXI)
pins: 1, 2

## RES_324_0.125W_1%_0805
designator R?, comment 324
Resistenza SMD TE Connectivity Film sottile; Voltage[V]: 100; Tollerance[%]: 0.1; Serie: CPF; Vendor: TE Connectivity; Type: Resistors; Package: 0805; Power[W]: 0.1; Value[OHM ]: 324
footprint RES_0816_SUS(My_MAXI)
pins: 1, 2

## RES_324K_0.125W_1%_0805
designator R?, comment 324K
Resistenza SMD TE Connectivity Film sottile; Voltage[V]: 100; Tollerance[%]: 0.1; Serie: CPF; Vendor: TE Connectivity; Type: Resistors; Package: 0805; Power[W]: 0.1; Value[OHM ]: 324K
footprint RES_0816_SUS(My_MAXI)
pins: 1, 2

## RES_328_0.125W_1%_0805
designator R?, comment 328
Resistenza SMD TE Connectivity Film sottile; Voltage[V]: 100; Tollerance[%]: 0.1; Serie: CPF; Vendor: TE Connectivity; Type: Resistors; Package: 0805; Power[W]: 0.1; Value[OHM ]: 328
footprint RES_0816_SUS(My_MAXI)
pins: 1, 2

## RES_328K_0.125W_1%_0805
designator R?, comment 328K
Resistenza SMD TE Connectivity Film sottile; Voltage[V]: 100; Tollerance[%]: 0.1; Serie: CPF; Vendor: TE Connectivity; Type: Resistors; Package: 0805; Power[W]: 0.1; Value[OHM ]: 328K
footprint RES_0816_SUS(My_MAXI)
pins: 1, 2

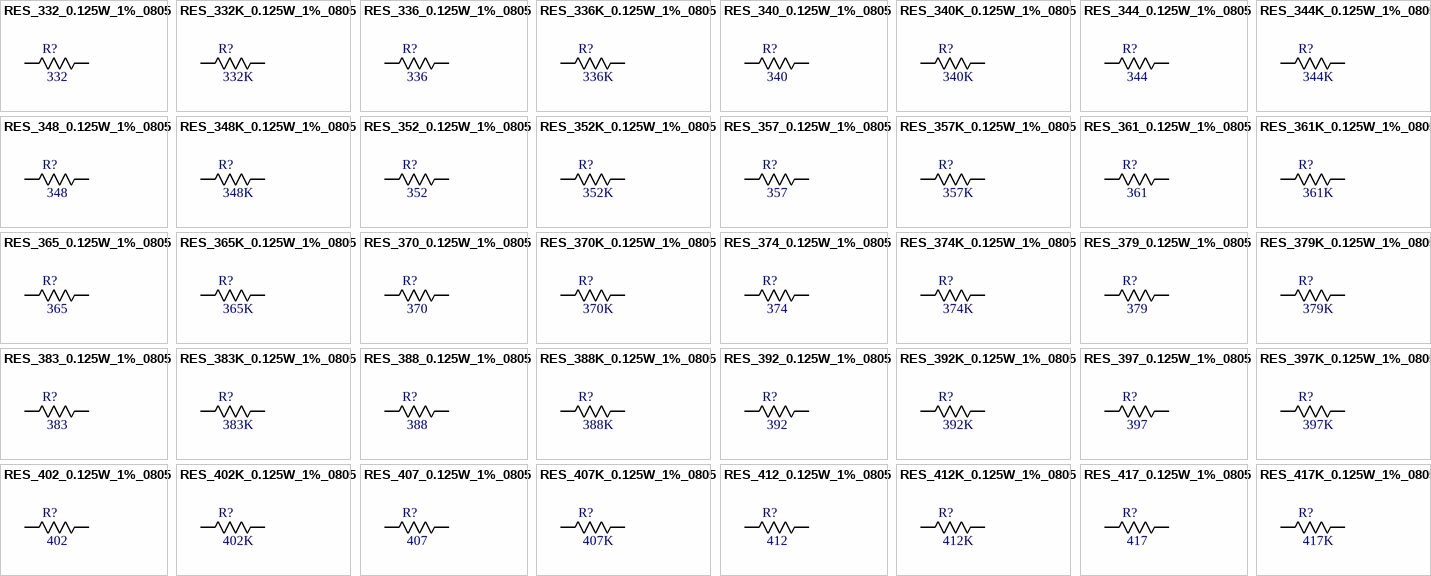
[diagram p20: symbols RES_332_0.125W_1%_0805 to RES_417K_0.125W_1%_0805]

## RES_332_0.125W_1%_0805
designator R?, comment 332
Resistenza SMD TE Connectivity Film sottile; Voltage[V]: 100; Tollerance[%]: 0.1; Serie: CPF; Vendor: TE Connectivity; Type: Resistors; Package: 0805; Power[W]: 0.1; Value[OHM ]: 332
footprint RES_0816_SUS(My_MAXI)
pins: 1, 2

## RES_332K_0.125W_1%_0805
designator R?, comment 332K
Resistenza SMD TE Connectivity Film sottile; Voltage[V]: 100; Tollerance[%]: 0.1; Serie: CPF; Vendor: TE Connectivity; Type: Resistors; Package: 0805; Power[W]: 0.1; Value[OHM ]: 332K
footprint RES_0816_SUS(My_MAXI)
pins: 1, 2

## RES_336_0.125W_1%_0805
designator R?, comment 336
Resistenza SMD TE Connectivity Film sottile; Voltage[V]: 100; Tollerance[%]: 0.1; Serie: CPF; Vendor: TE Connectivity; Type: Resistors; Package: 0805; Power[W]: 0.1; Value[OHM ]: 336
footprint RES_0816_SUS(My_MAXI)
pins: 1, 2

## RES_336K_0.125W_1%_0805
designator R?, comment 336K
Resistenza SMD TE Connectivity Film sottile; Voltage[V]: 100; Tollerance[%]: 0.1; Serie: CPF; Vendor: TE Connectivity; Type: Resistors; Package: 0805; Power[W]: 0.1; Value[OHM ]: 336K
footprint RES_0816_SUS(My_MAXI)
pins: 1, 2

## RES_340_0.125W_1%_0805
designator R?, comment 340
Resistenza SMD TE Connectivity Film sottile; Manufacturer_Part_Number: CPF0805B100RE; Voltage[V]: 100; Tollerance[%]: 0.1; Serie: CPF; Codice RS: 666-2516; Vendor: TE Connectivity; Type: Resistors; Package: 0805; Power[W]: 0.1; Value[OHM ]: 340
footprint RES_0816_SUS(My_MAXI)
pins: 1, 2

## RES_340K_0.125W_1%_0805
designator R?, comment 340K
Resistenza SMD TE Connectivity Film sottile; Voltage[V]: 100; Tollerance[%]: 0.1; Serie: CPF; Vendor: TE Connectivity; Type: Resistors; Package: 0805; Power[W]: 0.1; Value[OHM ]: 340K
footprint RES_0816_SUS(My_MAXI)
pins: 1, 2

## RES_344_0.125W_1%_0805
designator R?, comment 344
Resistenza SMD TE Connectivity Film sottile; Voltage[V]: 100; Tollerance[%]: 0.1; Serie: CPF; Vendor: TE Connectivity; Type: Resistors; Package: 0805; Power[W]: 0.1; Value[OHM ]: 344
footprint RES_0816_SUS(My_MAXI)
pins: 1, 2

## RES_344K_0.125W_1%_0805
designator R?, comment 344K
Resistenza SMD TE Connectivity Film sottile; Voltage[V]: 100; Tollerance[%]: 0.1; Serie: CPF; Vendor: TE Connectivity; Type: Resistors; Package: 0805; Power[W]: 0.1; Value[OHM ]: 344K
footprint RES_0816_SUS(My_MAXI)
pins: 1, 2

## RES_348_0.125W_1%_0805
designator R?, comment 348
Resistenza SMD TE Connectivity Film sottile; Voltage[V]: 100; Tollerance[%]: 0.1; Serie: CPF; Vendor: TE Connectivity; Type: Resistors; Package: 0805; Power[W]: 0.1; Value[OHM ]: 348
footprint RES_0816_SUS(My_MAXI)
pins: 1, 2

## RES_348K_0.125W_1%_0805
designator R?, comment 348K
Resistenza SMD TE Connectivity Film sottile; Voltage[V]: 100; Tollerance[%]: 0.1; Serie: CPF; Vendor: TE Connectivity; Type: Resistors; Package: 0805; Power[W]: 0.1; Value[OHM ]: 348K
footprint RES_0816_SUS(My_MAXI)
pins: 1, 2

## RES_352_0.125W_1%_0805
designator R?, comment 352
Resistenza SMD TE Connectivity Film sottile; Voltage[V]: 100; Tollerance[%]: 0.1; Serie: CPF; Vendor: TE Connectivity; Type: Resistors; Package: 0805; Power[W]: 0.1; Value[OHM ]: 352
footprint RES_0816_SUS(My_MAXI)
pins: 1, 2

## RES_352K_0.125W_1%_0805
designator R?, comment 352K
Resistenza SMD TE Connectivity Film sottile; Voltage[V]: 100; Tollerance[%]: 0.1; Serie: CPF; Vendor: TE Connectivity; Type: Resistors; Package: 0805; Power[W]: 0.1; Value[OHM ]: 352K
footprint RES_0816_SUS(My_MAXI)
pins: 1, 2

## RES_357_0.125W_1%_0805
designator R?, comment 357
Resistenza SMD TE Connectivity Film sottile; Voltage[V]: 100; Tollerance[%]: 0.1; Serie: CPF; Vendor: TE Connectivity; Type: Resistors; Package: 0805; Power[W]: 0.1; Value[OHM ]: 357
footprint RES_0816_SUS(My_MAXI)
pins: 1, 2

## RES_357K_0.125W_1%_0805
designator R?, comment 357K
Resistenza SMD TE Connectivity Film sottile; Voltage[V]: 100; Tollerance[%]: 0.1; Serie: CPF; Vendor: TE Connectivity; Type: Resistors; Package: 0805; Power[W]: 0.1; Value[OHM ]: 357K
footprint RES_0816_SUS(My_MAXI)
pins: 1, 2

## RES_361_0.125W_1%_0805
designator R?, comment 361
Resistenza SMD TE Connectivity Film sottile; Voltage[V]: 100; Tollerance[%]: 0.1; Serie: CPF; Vendor: TE Connectivity; Type: Resistors; Package: 0805; Power[W]: 0.1; Value[OHM ]: 361
footprint RES_0816_SUS(My_MAXI)
pins: 1, 2

## RES_361K_0.125W_1%_0805
designator R?, comment 361K
Resistenza SMD TE Connectivity Film sottile; Voltage[V]: 100; Tollerance[%]: 0.1; Serie: CPF; Vendor: TE Connectivity; Type: Resistors; Package: 0805; Power[W]: 0.1; Value[OHM ]: 361K
footprint RES_0816_SUS(My_MAXI)
pins: 1, 2

## RES_365_0.125W_1%_0805
designator R?, comment 365
Resistenza SMD TE Connectivity Film sottile; Voltage[V]: 100; Tollerance[%]: 0.1; Serie: CPF; Vendor: TE Connectivity; Type: Resistors; Package: 0805; Power[W]: 0.1; Value[OHM ]: 365
footprint RES_0816_SUS(My_MAXI)
pins: 1, 2

## RES_365K_0.125W_1%_0805
designator R?, comment 365K
Resistenza SMD TE Connectivity Film sottile; Voltage[V]: 100; Tollerance[%]: 0.1; Serie: CPF; Vendor: TE Connectivity; Type: Resistors; Package: 0805; Power[W]: 0.1; Value[OHM ]: 365K
footprint RES_0816_SUS(My_MAXI)
pins: 1, 2

## RES_370_0.125W_1%_0805
designator R?, comment 370
Resistenza SMD TE Connectivity Film sottile; Voltage[V]: 100; Tollerance[%]: 0.1; Serie: CPF; Vendor: TE Connectivity; Type: Resistors; Package: 0805; Power[W]: 0.1; Value[OHM ]: 370
footprint RES_0816_SUS(My_MAXI)
pins: 1, 2

## RES_370K_0.125W_1%_0805
designator R?, comment 370K
Resistenza SMD TE Connectivity Film sottile; Voltage[V]: 100; Tollerance[%]: 0.1; Serie: CPF; Vendor: TE Connectivity; Type: Resistors; Package: 0805; Power[W]: 0.1; Value[OHM ]: 370K
footprint RES_0816_SUS(My_MAXI)
pins: 1, 2

## RES_374_0.125W_1%_0805
designator R?, comment 374
Resistenza SMD TE Connectivity Film sottile; Voltage[V]: 100; Tollerance[%]: 0.1; Serie: CPF; Vendor: TE Connectivity; Type: Resistors; Package: 0805; Power[W]: 0.1; Value[OHM ]: 374
footprint RES_0816_SUS(My_MAXI)
pins: 1, 2

## RES_374K_0.125W_1%_0805
designator R?, comment 374K
Resistenza SMD TE Connectivity Film sottile; Voltage[V]: 100; Tollerance[%]: 0.1; Serie: CPF; Vendor: TE Connectivity; Type: Resistors; Package: 0805; Power[W]: 0.1; Value[OHM ]: 374K
footprint RES_0816_SUS(My_MAXI)
pins: 1, 2

## RES_379_0.125W_1%_0805
designator R?, comment 379
Resistenza SMD TE Connectivity Film sottile; Voltage[V]: 100; Tollerance[%]: 0.1; Serie: CPF; Vendor: TE Connectivity; Type: Resistors; Package: 0805; Power[W]: 0.1; Value[OHM ]: 379
footprint RES_0816_SUS(My_MAXI)
pins: 1, 2

## RES_379K_0.125W_1%_0805
designator R?, comment 379K
Resistenza SMD TE Connectivity Film sottile; Voltage[V]: 100; Tollerance[%]: 0.1; Serie: CPF; Vendor: TE Connectivity; Type: Resistors; Package: 0805; Power[W]: 0.1; Value[OHM ]: 379K
footprint RES_0816_SUS(My_MAXI)
pins: 1, 2

## RES_383_0.125W_1%_0805
designator R?, comment 383
Resistenza SMD TE Connectivity Film sottile; Voltage[V]: 100; Tollerance[%]: 0.1; Serie: CPF; Vendor: TE Connectivity; Type: Resistors; Package: 0805; Power[W]: 0.1; Value[OHM ]: 383
footprint RES_0816_SUS(My_MAXI)
pins: 1, 2

## RES_383K_0.125W_1%_0805
designator R?, comment 383K
Resistenza SMD TE Connectivity Film sottile; Voltage[V]: 100; Tollerance[%]: 0.1; Serie: CPF; Vendor: TE Connectivity; Type: Resistors; Package: 0805; Power[W]: 0.1; Value[OHM ]: 383K
footprint RES_0816_SUS(My_MAXI)
pins: 1, 2

## RES_388_0.125W_1%_0805
designator R?, comment 388
Resistenza SMD TE Connectivity Film sottile; Voltage[V]: 100; Tollerance[%]: 0.1; Serie: CPF; Vendor: TE Connectivity; Type: Resistors; Package: 0805; Power[W]: 0.1; Value[OHM ]: 388
footprint RES_0816_SUS(My_MAXI)
pins: 1, 2

## RES_388K_0.125W_1%_0805
designator R?, comment 388K
Resistenza SMD TE Connectivity Film sottile; Voltage[V]: 100; Tollerance[%]: 0.1; Serie: CPF; Vendor: TE Connectivity; Type: Resistors; Package: 0805; Power[W]: 0.1; Value[OHM ]: 388K
footprint RES_0816_SUS(My_MAXI)
pins: 1, 2

## RES_392_0.125W_1%_0805
designator R?, comment 392
Resistenza SMD TE Connectivity Film sottile; Voltage[V]: 100; Tollerance[%]: 0.1; Serie: CPF; Vendor: TE Connectivity; Type: Resistors; Package: 0805; Power[W]: 0.1; Value[OHM ]: 392
footprint RES_0816_SUS(My_MAXI)
pins: 1, 2

## RES_392K_0.125W_1%_0805
designator R?, comment 392K
Resistenza SMD TE Connectivity Film sottile; Voltage[V]: 100; Tollerance[%]: 0.1; Serie: CPF; Vendor: TE Connectivity; Type: Resistors; Package: 0805; Power[W]: 0.1; Value[OHM ]: 392K
footprint RES_0816_SUS(My_MAXI)
pins: 1, 2

## RES_397_0.125W_1%_0805
designator R?, comment 397
Resistenza SMD TE Connectivity Film sottile; Voltage[V]: 100; Tollerance[%]: 0.1; Serie: CPF; Vendor: TE Connectivity; Type: Resistors; Package: 0805; Power[W]: 0.1; Value[OHM ]: 397
footprint RES_0816_SUS(My_MAXI)
pins: 1, 2

## RES_397K_0.125W_1%_0805
designator R?, comment 397K
Resistenza SMD TE Connectivity Film sottile; Voltage[V]: 100; Tollerance[%]: 0.1; Serie: CPF; Vendor: TE Connectivity; Type: Resistors; Package: 0805; Power[W]: 0.1; Value[OHM ]: 397K
footprint RES_0816_SUS(My_MAXI)
pins: 1, 2

## RES_402_0.125W_1%_0805
designator R?, comment 402
Resistenza SMD TE Connectivity Film sottile; Voltage[V]: 100; Tollerance[%]: 0.1; Serie: CPF; Vendor: TE Connectivity; Type: Resistors; Package: 0805; Power[W]: 0.1; Value[OHM ]: 402
footprint RES_0816_SUS(My_MAXI)
pins: 1, 2

## RES_402K_0.125W_1%_0805
designator R?, comment 402K
Resistenza SMD TE Connectivity Film sottile; Voltage[V]: 100; Tollerance[%]: 0.1; Serie: CPF; Vendor: TE Connectivity; Type: Resistors; Package: 0805; Power[W]: 0.1; Value[OHM ]: 402K
footprint RES_0816_SUS(My_MAXI)
pins: 1, 2

## RES_407_0.125W_1%_0805
designator R?, comment 407
Resistenza SMD TE Connectivity Film sottile; Voltage[V]: 100; Tollerance[%]: 0.1; Serie: CPF; Vendor: TE Connectivity; Type: Resistors; Package: 0805; Power[W]: 0.1; Value[OHM ]: 407
footprint RES_0816_SUS(My_MAXI)
pins: 1, 2

## RES_407K_0.125W_1%_0805
designator R?, comment 407K
Resistenza SMD TE Connectivity Film sottile; Voltage[V]: 100; Tollerance[%]: 0.1; Serie: CPF; Vendor: TE Connectivity; Type: Resistors; Package: 0805; Power[W]: 0.1; Value[OHM ]: 407K
footprint RES_0816_SUS(My_MAXI)
pins: 1, 2

## RES_412_0.125W_1%_0805
designator R?, comment 412
Resistenza SMD TE Connectivity Film sottile; Voltage[V]: 100; Tollerance[%]: 0.1; Serie: CPF; Vendor: TE Connectivity; Type: Resistors; Package: 0805; Power[W]: 0.1; Value[OHM ]: 412
footprint RES_0816_SUS(My_MAXI)
pins: 1, 2

## RES_412K_0.125W_1%_0805
designator R?, comment 412K
Resistenza SMD TE Connectivity Film sottile; Voltage[V]: 100; Tollerance[%]: 0.1; Serie: CPF; Vendor: TE Connectivity; Type: Resistors; Package: 0805; Power[W]: 0.1; Value[OHM ]: 412K
footprint RES_0816_SUS(My_MAXI)
pins: 1, 2

## RES_417_0.125W_1%_0805
designator R?, comment 417
Resistenza SMD TE Connectivity Film sottile; Voltage[V]: 100; Tollerance[%]: 0.1; Serie: CPF; Vendor: TE Connectivity; Type: Resistors; Package: 0805; Power[W]: 0.1; Value[OHM ]: 417
footprint RES_0816_SUS(My_MAXI)
pins: 1, 2

## RES_417K_0.125W_1%_0805
designator R?, comment 417K
Resistenza SMD TE Connectivity Film sottile; Voltage[V]: 100; Tollerance[%]: 0.1; Serie: CPF; Vendor: TE Connectivity; Type: Resistors; Package: 0805; Power[W]: 0.1; Value[OHM ]: 417K
footprint RES_0816_SUS(My_MAXI)
pins: 1, 2

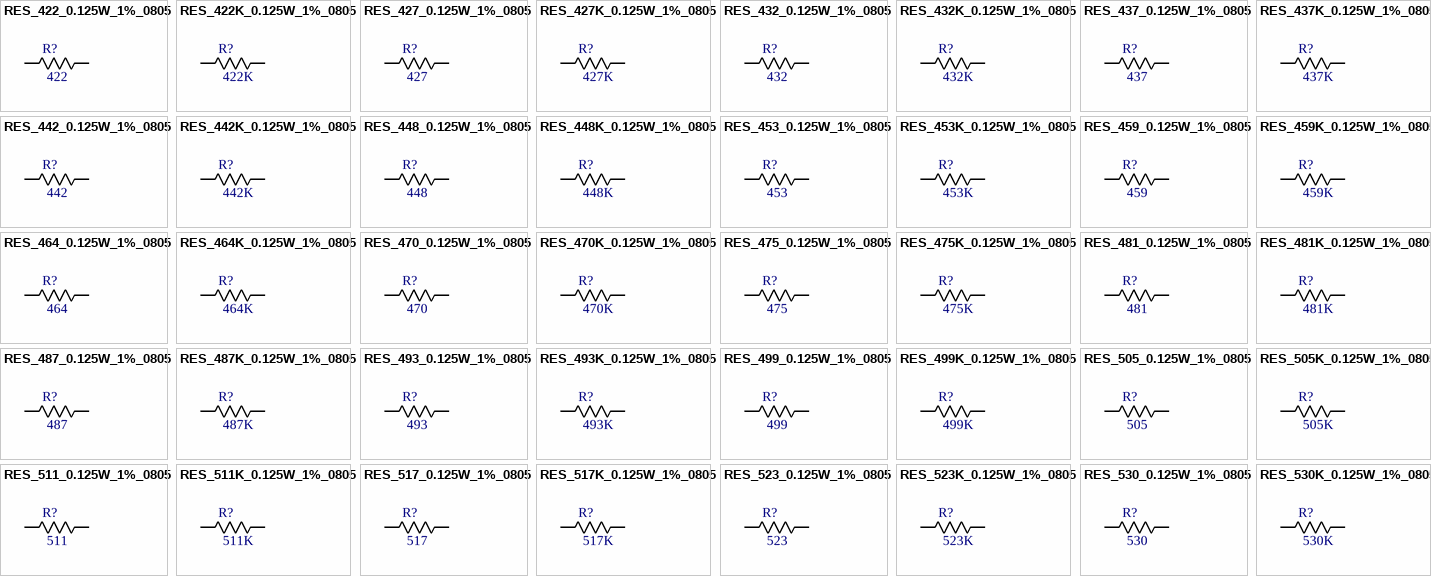
[diagram p21: symbols RES_422_0.125W_1%_0805 to RES_530K_0.125W_1%_0805]

## RES_422_0.125W_1%_0805
designator R?, comment 422
Resistenza SMD TE Connectivity Film sottile; Voltage[V]: 100; Tollerance[%]: 0.1; Serie: CPF; Vendor: TE Connectivity; Type: Resistors; Package: 0805; Power[W]: 0.1; Value[OHM ]: 422
footprint RES_0816_SUS(My_MAXI)
pins: 1, 2

## RES_422K_0.125W_1%_0805
designator R?, comment 422K
Resistenza SMD TE Connectivity Film sottile; Voltage[V]: 100; Tollerance[%]: 0.1; Serie: CPF; Vendor: TE Connectivity; Type: Resistors; Package: 0805; Power[W]: 0.1; Value[OHM ]: 422K
footprint RES_0816_SUS(My_MAXI)
pins: 1, 2

## RES_427_0.125W_1%_0805
designator R?, comment 427
Resistenza SMD TE Connectivity Film sottile; Voltage[V]: 100; Tollerance[%]: 0.1; Serie: CPF; Vendor: TE Connectivity; Type: Resistors; Package: 0805; Power[W]: 0.1; Value[OHM ]: 427
footprint RES_0816_SUS(My_MAXI)
pins: 1, 2

## RES_427K_0.125W_1%_0805
designator R?, comment 427K
Resistenza SMD TE Connectivity Film sottile; Voltage[V]: 100; Tollerance[%]: 0.1; Serie: CPF; Vendor: TE Connectivity; Type: Resistors; Package: 0805; Power[W]: 0.1; Value[OHM ]: 427K
footprint RES_0816_SUS(My_MAXI)
pins: 1, 2

## RES_432_0.125W_1%_0805
designator R?, comment 432
Resistenza SMD TE Connectivity Film sottile; Voltage[V]: 100; Tollerance[%]: 0.1; Serie: CPF; Vendor: TE Connectivity; Type: Resistors; Package: 0805; Power[W]: 0.1; Value[OHM ]: 432
footprint RES_0816_SUS(My_MAXI)
pins: 1, 2

## RES_432K_0.125W_1%_0805
designator R?, comment 432K
Resistenza SMD TE Connectivity Film sottile; Voltage[V]: 100; Tollerance[%]: 0.1; Serie: CPF; Vendor: TE Connectivity; Type: Resistors; Package: 0805; Power[W]: 0.1; Value[OHM ]: 432K
footprint RES_0816_SUS(My_MAXI)
pins: 1, 2

## RES_437_0.125W_1%_0805
designator R?, comment 437
Resistenza SMD TE Connectivity Film sottile; Voltage[V]: 100; Tollerance[%]: 0.1; Serie: CPF; Vendor: TE Connectivity; Type: Resistors; Package: 0805; Power[W]: 0.1; Value[OHM ]: 437
footprint RES_0816_SUS(My_MAXI)
pins: 1, 2

## RES_437K_0.125W_1%_0805
designator R?, comment 437K
Resistenza SMD TE Connectivity Film sottile; Voltage[V]: 100; Tollerance[%]: 0.1; Serie: CPF; Vendor: TE Connectivity; Type: Resistors; Package: 0805; Power[W]: 0.1; Value[OHM ]: 437K
footprint RES_0816_SUS(My_MAXI)
pins: 1, 2

## RES_442_0.125W_1%_0805
designator R?, comment 442
Resistenza SMD TE Connectivity Film sottile; Voltage[V]: 100; Tollerance[%]: 0.1; Serie: CPF; Vendor: TE Connectivity; Type: Resistors; Package: 0805; Power[W]: 0.1; Value[OHM ]: 442
footprint RES_0816_SUS(My_MAXI)
pins: 1, 2

## RES_442K_0.125W_1%_0805
designator R?, comment 442K
Resistenza SMD TE Connectivity Film sottile; Voltage[V]: 100; Tollerance[%]: 0.1; Serie: CPF; Vendor: TE Connectivity; Type: Resistors; Package: 0805; Power[W]: 0.1; Value[OHM ]: 442K
footprint RES_0816_SUS(My_MAXI)
pins: 1, 2

## RES_448_0.125W_1%_0805
designator R?, comment 448
Resistenza SMD TE Connectivity Film sottile; Voltage[V]: 100; Tollerance[%]: 0.1; Serie: CPF; Vendor: TE Connectivity; Type: Resistors; Package: 0805; Power[W]: 0.1; Value[OHM ]: 448
footprint RES_0816_SUS(My_MAXI)
pins: 1, 2

## RES_448K_0.125W_1%_0805
designator R?, comment 448K
Resistenza SMD TE Connectivity Film sottile; Voltage[V]: 100; Tollerance[%]: 0.1; Serie: CPF; Vendor: TE Connectivity; Type: Resistors; Package: 0805; Power[W]: 0.1; Value[OHM ]: 448K
footprint RES_0816_SUS(My_MAXI)
pins: 1, 2

## RES_453_0.125W_1%_0805
designator R?, comment 453
Resistenza SMD TE Connectivity Film sottile; Voltage[V]: 100; Tollerance[%]: 0.1; Serie: CPF; Vendor: TE Connectivity; Type: Resistors; Package: 0805; Power[W]: 0.1; Value[OHM ]: 453
footprint RES_0816_SUS(My_MAXI)
pins: 1, 2

## RES_453K_0.125W_1%_0805
designator R?, comment 453K
Resistenza SMD TE Connectivity Film sottile; Voltage[V]: 100; Tollerance[%]: 0.1; Serie: CPF; Vendor: TE Connectivity; Type: Resistors; Package: 0805; Power[W]: 0.1; Value[OHM ]: 453K
footprint RES_0816_SUS(My_MAXI)
pins: 1, 2

## RES_459_0.125W_1%_0805
designator R?, comment 459
Resistenza SMD TE Connectivity Film sottile; Voltage[V]: 100; Tollerance[%]: 0.1; Serie: CPF; Vendor: TE Connectivity; Type: Resistors; Package: 0805; Power[W]: 0.1; Value[OHM ]: 459
footprint RES_0816_SUS(My_MAXI)
pins: 1, 2

## RES_459K_0.125W_1%_0805
designator R?, comment 459K
Resistenza SMD TE Connectivity Film sottile; Voltage[V]: 100; Tollerance[%]: 0.1; Serie: CPF; Vendor: TE Connectivity; Type: Resistors; Package: 0805; Power[W]: 0.1; Value[OHM ]: 459K
footprint RES_0816_SUS(My_MAXI)
pins: 1, 2

## RES_464_0.125W_1%_0805
designator R?, comment 464
Resistenza SMD TE Connectivity Film sottile; Voltage[V]: 100; Tollerance[%]: 0.1; Serie: CPF; Vendor: TE Connectivity; Type: Resistors; Package: 0805; Power[W]: 0.1; Value[OHM ]: 464
footprint RES_0816_SUS(My_MAXI)
pins: 1, 2

## RES_464K_0.125W_1%_0805
designator R?, comment 464K
Resistenza SMD TE Connectivity Film sottile; Voltage[V]: 100; Tollerance[%]: 0.1; Serie: CPF; Vendor: TE Connectivity; Type: Resistors; Package: 0805; Power[W]: 0.1; Value[OHM ]: 464K
footprint RES_0816_SUS(My_MAXI)
pins: 1, 2

## RES_470_0.125W_1%_0805
designator R?, comment 470
Resistenza SMD TE Connectivity Film sottile; Voltage[V]: 100; Tollerance[%]: 0.1; Serie: CPF; Vendor: TE Connectivity; Type: Resistors; Package: 0805; Power[W]: 0.1; Value[OHM ]: 470
footprint RES_0816_SUS(My_MAXI)
pins: 1, 2

## RES_470K_0.125W_1%_0805
designator R?, comment 470K
Resistenza SMD TE Connectivity Film sottile; Voltage[V]: 100; Tollerance[%]: 0.1; Serie: CPF; Vendor: TE Connectivity; Type: Resistors; Package: 0805; Power[W]: 0.1; Value[OHM ]: 470K
footprint RES_0816_SUS(My_MAXI)
pins: 1, 2

## RES_475_0.125W_1%_0805
designator R?, comment 475
Resistenza SMD TE Connectivity Film sottile; Voltage[V]: 100; Tollerance[%]: 0.1; Serie: CPF; Vendor: TE Connectivity; Type: Resistors; Package: 0805; Power[W]: 0.1; Value[OHM ]: 475
footprint RES_0816_SUS(My_MAXI)
pins: 1, 2

## RES_475K_0.125W_1%_0805
designator R?, comment 475K
Resistenza SMD TE Connectivity Film sottile; Voltage[V]: 100; Tollerance[%]: 0.1; Serie: CPF; Vendor: TE Connectivity; Type: Resistors; Package: 0805; Power[W]: 0.1; Value[OHM ]: 475K
footprint RES_0816_SUS(My_MAXI)
pins: 1, 2

## RES_481_0.125W_1%_0805
designator R?, comment 481
Resistenza SMD TE Connectivity Film sottile; Voltage[V]: 100; Tollerance[%]: 0.1; Serie: CPF; Vendor: TE Connectivity; Type: Resistors; Package: 0805; Power[W]: 0.1; Value[OHM ]: 481
footprint RES_0816_SUS(My_MAXI)
pins: 1, 2

## RES_481K_0.125W_1%_0805
designator R?, comment 481K
Resistenza SMD TE Connectivity Film sottile; Voltage[V]: 100; Tollerance[%]: 0.1; Serie: CPF; Vendor: TE Connectivity; Type: Resistors; Package: 0805; Power[W]: 0.1; Value[OHM ]: 481K
footprint RES_0816_SUS(My_MAXI)
pins: 1, 2

## RES_487_0.125W_1%_0805
designator R?, comment 487
Resistenza SMD TE Connectivity Film sottile; Voltage[V]: 100; Tollerance[%]: 0.1; Serie: CPF; Vendor: TE Connectivity; Type: Resistors; Package: 0805; Power[W]: 0.1; Value[OHM ]: 487
footprint RES_0816_SUS(My_MAXI)
pins: 1, 2

## RES_487K_0.125W_1%_0805
designator R?, comment 487K
Resistenza SMD TE Connectivity Film sottile; Voltage[V]: 100; Tollerance[%]: 0.1; Serie: CPF; Vendor: TE Connectivity; Type: Resistors; Package: 0805; Power[W]: 0.1; Value[OHM ]: 487K
footprint RES_0816_SUS(My_MAXI)
pins: 1, 2

## RES_493_0.125W_1%_0805
designator R?, comment 493
Resistenza SMD TE Connectivity Film sottile; Voltage[V]: 100; Tollerance[%]: 0.1; Serie: CPF; Vendor: TE Connectivity; Type: Resistors; Package: 0805; Power[W]: 0.1; Value[OHM ]: 493
footprint RES_0816_SUS(My_MAXI)
pins: 1, 2

## RES_493K_0.125W_1%_0805
designator R?, comment 493K
Resistenza SMD TE Connectivity Film sottile; Voltage[V]: 100; Tollerance[%]: 0.1; Serie: CPF; Vendor: TE Connectivity; Type: Resistors; Package: 0805; Power[W]: 0.1; Value[OHM ]: 493K
footprint RES_0816_SUS(My_MAXI)
pins: 1, 2